# Altium footprint library PJ-102B.PcbLib: 1 footprints
Each footprint in its own frame and in the unit in brackets; x right, y up, seen from the top. Pads: shape width x height; smd on the part's side, far side on the other; paste and mask are expansions set on the pad; w line width, h text height; cw(c..) or ccw(c..) is an arc to the next point about the centre after c.
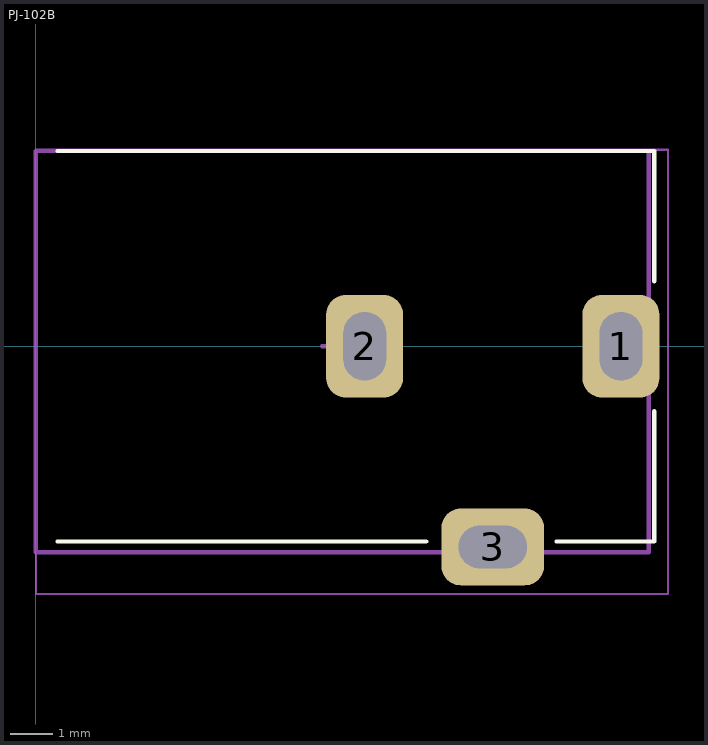
[diagram p0: the footprint, top view; thin cyan lines are the x and y axes]

## PJ-102B [mm]
pads (3):
  rrect50% 1.8x2.4 hole 1 slot 1.6 at 90 deg unplated: 1(13.7,0) 2(7.7,0)
  rrect50% 2.4x1.8 hole 1 slot 1.6 at 0 deg unplated: 3(10.7,-4.7)
Top Overlay:
  lines w0.1: 0.508,-4.572 9.144,-4.572 ; 0.508,4.572 14.478,4.572 14.478,1.524 ; 12.192,-4.572 14.478,-4.572 14.478,-1.524
Mechanical 1:
  lines w0.1: 0,-4.826 0,4.572 14.351,4.572 14.351,-4.826 0,-4.826
  text ".Designator" at 4.189,-0.293 h0.65
Mechanical 2:
  lines w0.05: 0,-5.8 0,-4.969 0,4.6 14.8,4.6 14.8,-5.8 0,-5.8
  lines w0.1: 6.7,0 7.7,0 ; 7.2,-0.5 7.2,0.5
3D body "Same_Sky_PJ-102B.step": height 11.1, standoff -3.4, extent 0,-4.827 14.4,4.573